# Altium footprint library inductor.PcbLib: 2 footprints
Each footprint in its own frame and in the unit in brackets; x right, y up, seen from the top. Pads: shape width x height; smd on the part's side, far side on the other; paste and mask are expansions set on the pad; w line width, h text height; cw(c..) or ccw(c..) is an arc to the next point about the centre after c.
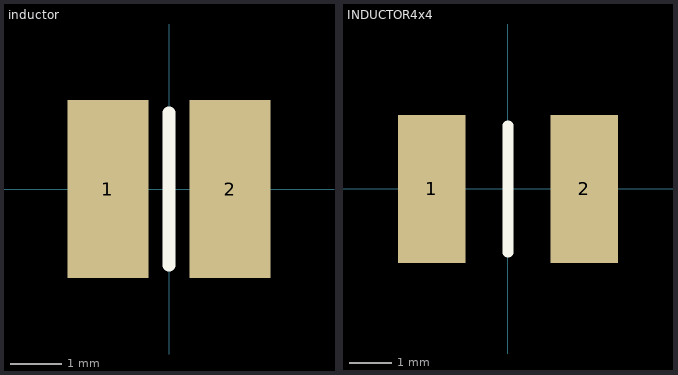
[diagram p0: the footprints below, top view; thin cyan lines are the x and y axes]

## inductor [mm]
pads (2):
  rect 1.6x3.5 smd: 1(-1.2,0) 2(1.2,0)
Top Overlay:
  lines w0.254: 0,-1.5 0,1.5
3D body "inductor.stp": height 2.1, standoff 0, extent -1.732,-1.5 1.732,1.5

## INDUCTOR4x4 [mm]
pads (2):
  rect 1.6x3.5 smd: 1(-1.8,0) 2(1.8,0)
Top Overlay:
  lines w0.254: 0,-1.5 0,1.5
3D body "inductor.stp": height 2.1, standoff 0, extent -1.732,-1.5 1.732,1.5